# EAGLE library part DIN41612-F48-FEMALE (library Traficon)
Female Eurocard connector PCB-mounting straight
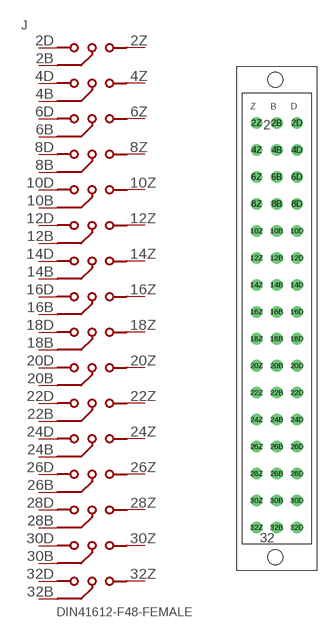
[diagram p0: symbol with the pads of DIN41612-F48-FEMALE-STRAIGHT; footprint DIN41612-F48-FEMALE-STRAIGHT]

Designator prefix J

## DIN41612-F48-FEMALE  [DIN41612-F48-FEMALE-STRAIGHT]
2B  2B
2D  2D
2Z  2Z
4B  4B
4D  4D
4Z  4Z
6B  6B
6D  6D
6Z  6Z
8B  8B
8D  8D
8Z  8Z
10B  10B
10D  10D
10Z  10Z
12B  12B
12D  12D
12Z  12Z
14B  14B
14D  14D
14Z  14Z
16B  16B
16D  16D
16Z  16Z
18B  18B
18D  18D
18Z  18Z
20B  20B
20D  20D
20Z  20Z
22B  22B
22D  22D
22Z  22Z
24B  24B
24D  24D
24Z  24Z
26B  26B
26D  26D
26Z  26Z
28B  28B
28D  28D
28Z  28Z
30B  30B
30D  30D
30Z  30Z
32B  32B
32D  32D
32Z  32Z

## Footprint DIN41612-F48-FEMALE-STRAIGHT (pad centres in mm)
drill 1.016 pad 2.184 round: 2B 0,36.82; 2D 3.81,36.82; 2Z -3.81,36.82; 4B 0,31.74; 4D 3.81,31.74; 4Z -3.81,31.74; 6B 0,26.66; 6D 3.81,26.66; 6Z -3.81,26.66; 8B 0,21.58; 8D 3.81,21.58; 8Z -3.81,21.58; 10B 0,16.5; 10D 3.81,16.5; 10Z -3.81,16.5; 12B 0,11.42; 12D 3.81,11.42; 12Z -3.81,11.42; 14B 0,6.34; 14D 3.81,6.34; 14Z -3.81,6.34; 16B 0,1.26; 16D 3.81,1.26; 16Z -3.81,1.26; 18B 0,-3.82; 18D 3.81,-3.82; 18Z -3.81,-3.82; 20B 0,-8.9; 20D 3.81,-8.9; 20Z -3.81,-8.9; 22B 0,-13.98; 22D 3.81,-13.98; 22Z -3.81,-13.98; 24B 0,-19.06; 24D 3.81,-19.06; 24Z -3.81,-19.06; 26B 0,-24.14; 26D 3.81,-24.14; 26Z -3.81,-24.14; 28B 0,-29.22; 28D 3.81,-29.22; 28Z -3.81,-29.22; 30B 0,-34.3; 30D 3.81,-34.3; 30Z -3.81,-34.3; 32B 0,-39.38; 32D 3.81,-39.38; 32Z -3.81,-39.38
hole 2.8 at -0.3,45
hole 2.8 at -0.3,-45